# EAGLE library part TUSB3410 (library My_TI)
TUSB3410 USB to Serial Port Controller Supports 12-Mbps USB Data Rate (Full Speed) Datasheet <http://www.ti.com/lit/ds/symlink/tusb3410.pdf>
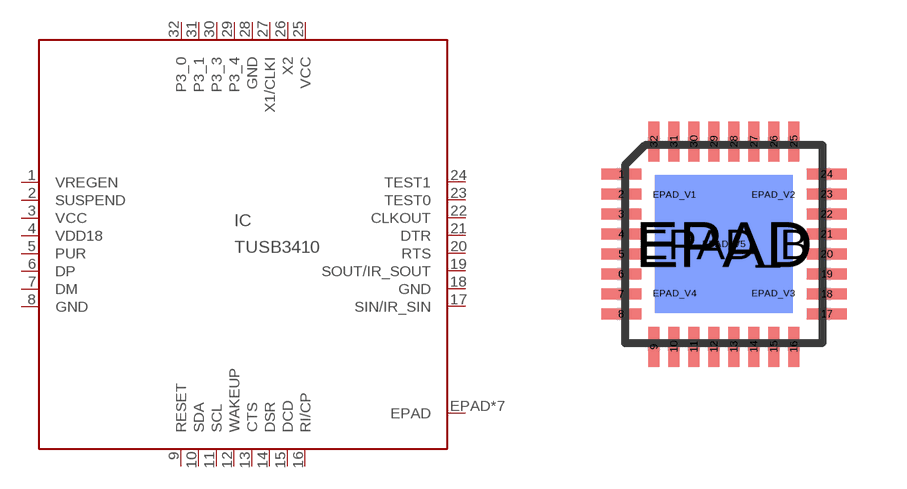
[diagram p1: symbol with the pads of VQFN32; footprint VQFN32]

Designator prefix IC

## TUSB3410  [VQFN32]
1  VREGEN
2  SUSPEND
3  VCC  pwr
4  VDD18  pwr
5  PUR
6  DP
7  DM
8  GND  pwr
9  RESET
10  SDA
11  SCL
12  WAKEUP  pwr
13  CTS
14  DSR
15  DCD
16  RI/CP
17  SIN/IR_SIN
18  GND  pwr
19  SOUT/IR_SOUT
20  RTS
21  DTR
22  CLKOUT
23  TEST0
24  TEST1
25  VCC  pwr
26  X2
27  X1/CLKI
28  GND  pwr
29  P3_4
30  P3_3
31  P3_1
32  P3_0
EPAD  EPAD
EPAD_B  EPAD
EPAD_V1  EPAD
EPAD_V2  EPAD
EPAD_V3  EPAD
EPAD_V4  EPAD
EPAD_V5  EPAD

## Footprint VQFN32 (pad centres in mm)
VQFN32 Auto generated by make-symbol-device-package-bsdl.ulp Rev. 43
smd 1 x 0.28: 1 -2.57,1.75; 2 -2.57,1.25; 3 -2.57,0.75; 4 -2.57,0.25; 5 -2.57,-0.25; 6 -2.57,-0.75; 7 -2.57,-1.25; 8 -2.57,-1.75; 17 2.57,-1.75; 18 2.57,-1.25; 19 2.57,-0.75; 20 2.57,-0.25; 21 2.57,0.25; 22 2.57,0.75; 23 2.57,1.25; 24 2.57,1.75
smd 0.28 x 1: 9 -1.75,-2.57; 10 -1.25,-2.57; 11 -0.75,-2.57; 12 -0.25,-2.57; 13 0.25,-2.57; 14 0.75,-2.57; 15 1.25,-2.57; 16 1.75,-2.57; 25 1.75,2.57; 26 1.25,2.57; 27 0.75,2.57; 28 0.25,2.57; 29 -0.25,2.57; 30 -0.75,2.57; 31 -1.25,2.57; 32 -1.75,2.57
smd 3.45 x 3.45: EPAD 0,0
smd 3.45 x 3.45 bottom: EPAD_B 0,0
drill 0.4: EPAD_V1 -1.235,1.235; EPAD_V2 1.235,1.235; EPAD_V3 1.235,-1.235; EPAD_V4 -1.235,-1.235; EPAD_V5 0,0